# EAGLE library part TPS6216X (library TexasInstruments)
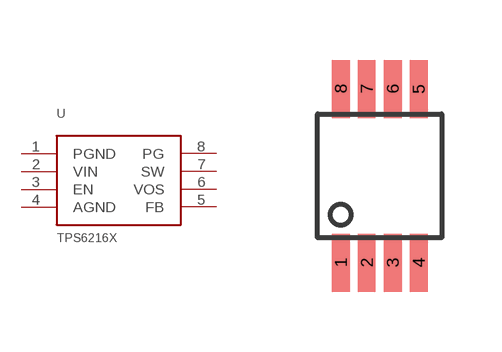
[diagram p8: symbol with the pads of DGK-8(VSSOP); footprint DGK-8(VSSOP)]

Designator prefix -

## TPS6216X  [DGK-8(VSSOP)]
1  PGND
2  VIN
3  EN
4  AGND
5  FB
6  VOS
7  SW
8  PG

## Footprint DGK-8(VSSOP) (pad centres in mm)
smd 0.45 x 1.45: 1 -0.975,-2.175; 2 -0.325,-2.175; 3 0.325,-2.175; 4 0.975,-2.175; 5 0.975,2.175; 6 0.325,2.175; 7 -0.325,2.175; 8 -0.975,2.175